# Altium schematic symbol library Optical.SchLib: 1 symbol
Pins are listed as number, name and electrical type; pins without a type are passive.

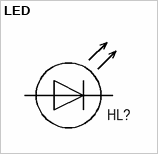
[diagram p0: symbol LED]

## LED
designator HL?  (value not drawn)
footprint LED-3MM
footprint LED-3MM-BL-H10MM
footprint LED-3MM-GR-H10MM
footprint LED-3MM-RED-H10MM
footprint LED-3MM-WH-H10MM
footprint LED-1206-BLUE
footprint LED-1206-GREEN
footprint LED-1206-RED
pins: 1, 2